# Altium footprint library amplifier.PcbLib: 10 footprints
Each footprint in its own frame and in the unit in brackets; x right, y up, seen from the top. Pads: shape width x height; smd on the part's side, far side on the other; paste and mask are expansions set on the pad; w line width, h text height; cw(c..) or ccw(c..) is an arc to the next point about the centre after c.
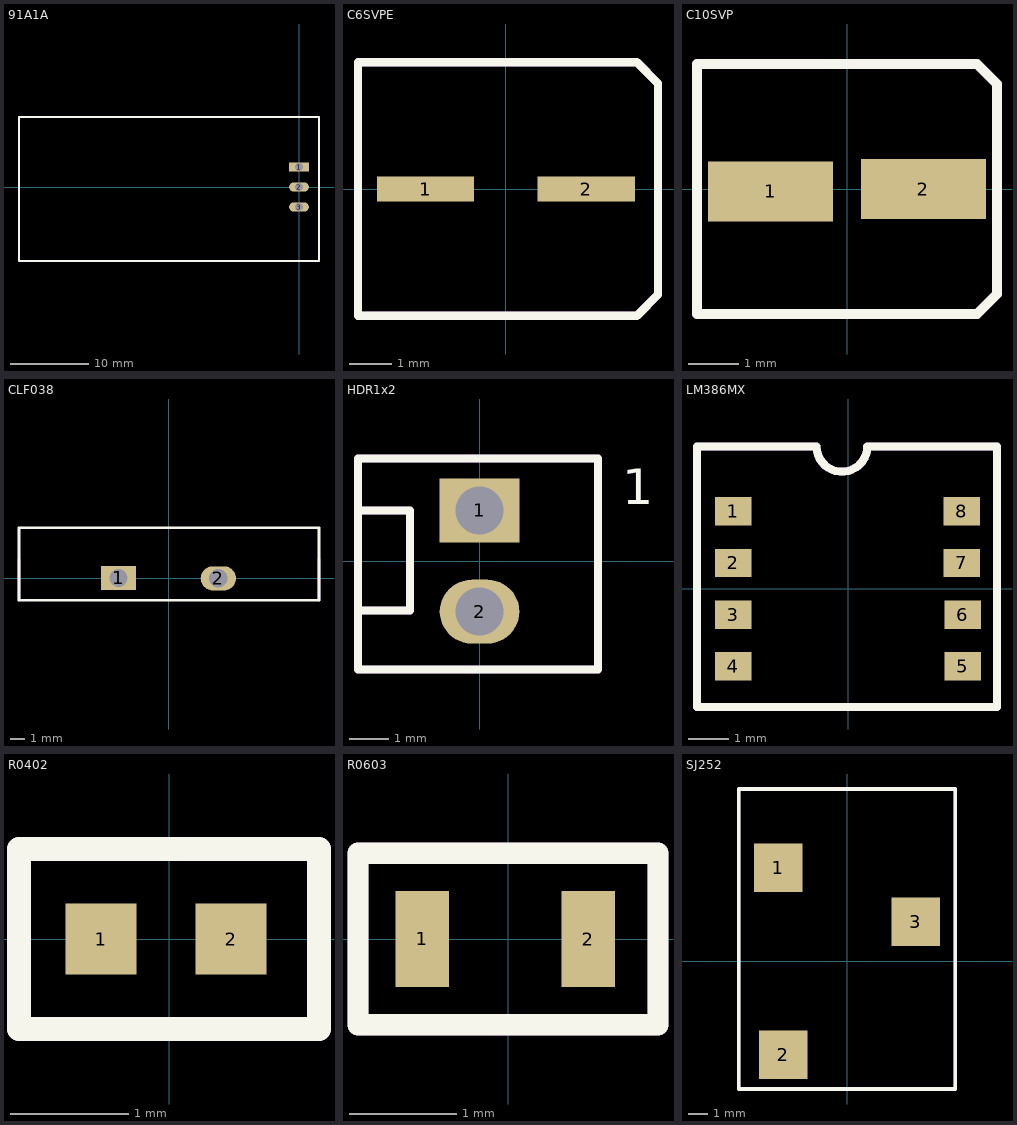
[diagram p0: the footprints below, top view; thin cyan lines are the x and y axes]

## 91A1A [mm]
pads (3):
  rect 2.5x1.2 hole 1: 1(0,2.54)
  oval 2.5x1.2 hole 1: 2(0,0) 3(0,-2.54)
Top Overlay:
  lines w0.2: -35.56,-9.398 2.54,-9.398 ; -35.56,-9.398 2.54,-9.398 ; -35.56,-9.398 2.54,-9.398 ; -35.56,-9.398 2.54,-9.398 ; -35.56,-9.398 -35.56,8.89 ; -35.56,8.89 2.54,8.89 ; -35.56,8.89 2.54,8.89 ; -35.56,8.89 2.54,8.89 ; -35.56,8.89 2.54,8.89 ; 2.54,-9.398 2.54,8.89 ; 2.54,-9.398 2.54,8.89 ; 2.54,-9.398 2.54,8.89 ; 2.54,-9.398 2.54,8.89
Mechanical 29:
  lines w0.2: -35.56,-9.398 -35.56,8.89 ; -35.56,-9.398 2.54,-9.398 ; -35.56,-9.398 2.54,-9.398 ; -35.56,-9.398 2.54,-9.398 ; -35.56,-9.398 2.54,-9.398 ; -35.56,8.89 2.54,8.89 ; -35.56,8.89 2.54,8.89 ; -35.56,8.89 2.54,8.89 ; -35.56,8.89 2.54,8.89 ; 2.54,-9.398 2.54,8.89 ; 2.54,-9.398 2.54,8.89 ; 2.54,-9.398 2.54,8.89 ; 2.54,-9.398 2.54,8.89
  text "'.Designator'" at -0.254,-9.144 h0.9
3D body "91A1A-B28.stp": height 17.46, standoff -15.23, extent -33.3,-7.962 1.625,7.912

## C6SVPE [mm]
pads (2):
  rect 2.3x0.6 smd: 1(-1.9,0) 2(1.9,0)
Top Overlay:
  lines w0.2: -3.5,-3 -3.5,3 3.1,3 3.6,2.5 3.6,-2.5 3.1,-3 -3.5,-3
Mechanical 29:
  lines w0.2: -3.5,-3 3.1,-3 3.6,-2.5 3.6,2.5 3.1,3 -3.5,3 -3.5,-3
  text "'.Designator'" at -2.4,-1.7 h0.9
3D body "PCAP_SVP_B6.stp": height 6.04, standoff 0, extent -3.099,-2.756 3.099,2.756

## C10SVP [mm]
pads (2):
  rect 2.5x1.2 smd: 1(-1.525,-0.05) 2(1.525,0)
Top Overlay:
  lines w0.2: -3,-2.5 2.6,-2.5 3,-2.1 3,2.1 2.6,2.5 -3,2.5 -3,-2.5
Mechanical 29:
  lines w0.2: -3,-2.5 -3,2.5 2.6,2.5 3,2.1 3,-2.1 2.6,-2.5 -3,-2.5
  text "'.Designator'" at -1.8,-1.6 h0.9
3D body "PCAP_SVP_A5.stp": height 5.56, standoff 0, extent -2.604,-2.248 2.604,2.248

## CLF038 [mm]
pads (2):
  rect 2.5x1.7 hole 1.3: 1(-3.55,0.025)
  oval 2.5x1.7 hole 1.3: 2(3.5,0)
Top Overlay:
  lines w0.2: -10.575,-1.55 10.6,-1.55 ; -10.575,-1.525 -10.575,3.575 10.6,3.575 10.6,-1.525
Mechanical 29:
  lines w0.2: -10.575,-1.55 -10.575,1.375 ; 10.6,-1.55 10.6,1.375
  text "'.Designator'" at 5.675,-2.875 h0.9
3D body "CUI_CLF0381MP-1.step": height 21, standoff -7.29, extent -10.05,-3.025 9.95,0.775

## HDR1x2 [mm]
pads (2):
  rect 2x1.6 hole 1.2: 1(0,1.27)
  oval 2x1.6 hole 1.2: 2(0,-1.27)
Top Overlay:
  lines w0.2: -3.045,-1.245 -1.75,-1.245 -1.75,1.27 -3.025,1.27 ; -3.05,-2.725 2.975,-2.725 2.975,2.575 -3.05,2.575 -3.05,-2.725
  text "1" at 3.575,1.425 h0.9
Mechanical 29:
  lines w0.2: -3.045,-1.245 -1.75,-1.245 -1.75,1.27 -3.025,1.27 ; -3.05,-2.725 -3.05,2.575 2.975,2.575 2.975,-2.725 -3.05,-2.725
  text "1" at 3.575,1.425 h0.9
  text "'.Designator'1" at 0.875,-2.325 h0.9
3D body "022292021.stp": height 11.71, standoff -3.55, extent -2.925,-2.615 2.875,2.465

## LM386MX [mm]
pads (8):
  rect 0.9x0.7 smd: 1(-2.825,1.913) 2(-2.825,0.638) 3(-2.825,-0.637) 4(-2.825,-1.912) 5(2.825,-1.912) 6(2.825,-0.637) 7(2.8,0.638) 8(2.8,1.913)
Top Overlay:
  lines w0.2: -3.725,-2.912 3.675,-2.912 3.675,3.513 0.475,3.513 cw(c-0.15,3.513) -0.775,3.513 -3.725,3.513 -3.725,-2.912
Mechanical 29:
  lines w0.2: -3.725,-2.912 -3.725,3.513 -0.775,3.513 ccw(c-0.15,3.513) 0.475,3.513 3.675,3.513 3.675,-2.912 -3.725,-2.912
  text "'.Designator'" at -1.8,-2.7 h0.9
3D body "M08A.stp": height 1.76, standoff 0, extent -3.124,-2.489 3.074,2.515

## PCBComponent_1 [mm]

## R0402 [mm]
pads (2):
  rect 0.6x0.6 smd: 1(-0.575,0) 2(0.525,0)
Top Overlay:
  lines w0.2: -1.27,-0.762 1.27,-0.762 1.27,0.762 -1.27,0.762 -1.27,-0.762
Mechanical 29:
  lines w0.2: -1.27,-0.762 -1.27,0.762 1.27,0.762 1.27,-0.762 -1.27,-0.762
  text "'.Designator'" at -0.125,-1.2 h0.7
3D body "RES_CRCW_0402.stp": height 0.41, standoff 0, extent -0.521,-0.279 0.521,0.279

## R0603 [mm]
pads (2):
  rect 0.5x0.9 smd: 1(-0.8,0) 2(0.75,0)
Top Overlay:
  lines w0.2: -1.4,-0.8 1.4,-0.8 1.4,0.8 -1.4,0.8 -1.4,-0.8
Mechanical 29:
  lines w0.2: -1.4,-0.8 -1.4,0.8 1.4,0.8 1.4,-0.8 -1.4,-0.8
  text "'.Designator'" at -0.9,-0.4 h0.7
3D body "User Library-CR1608-0603.step": height 0.46, standoff 0.01, extent -0.8,-0.4 0.8,0.4

## SJ252 [mm]
pads (3):
  rect 2.5x2.5 smd: 1(-3.556,4.826) 2(-3.302,-4.826) 3(3.556,2.032)
Top Overlay:
  lines w0.2: -5.588,-6.604 -5.588,8.89 5.588,8.89 5.588,-6.604 -5.588,-6.604
Mechanical 29:
  lines w0.2: -5.588,-6.604 5.588,-6.604 5.588,8.89 -5.588,8.89 -5.588,-6.604
  text "'.Designator'" at 2.54,-6.096 h0.9
3D body "CUI_SJ-2523-SMT-TR.step": height 4.51, standoff -0.79, extent -3.917,-5.48 4.083,8.02